# Altium footprint library SM_L_2520-SRN2512-1R0M.PcbLib: 1 footprints
Each footprint in its own frame and in the unit in brackets; x right, y up, seen from the top. Pads: shape width x height; smd on the part's side, far side on the other; paste and mask are expansions set on the pad; w line width, h text height; cw(c..) or ccw(c..) is an arc to the next point about the centre after c.
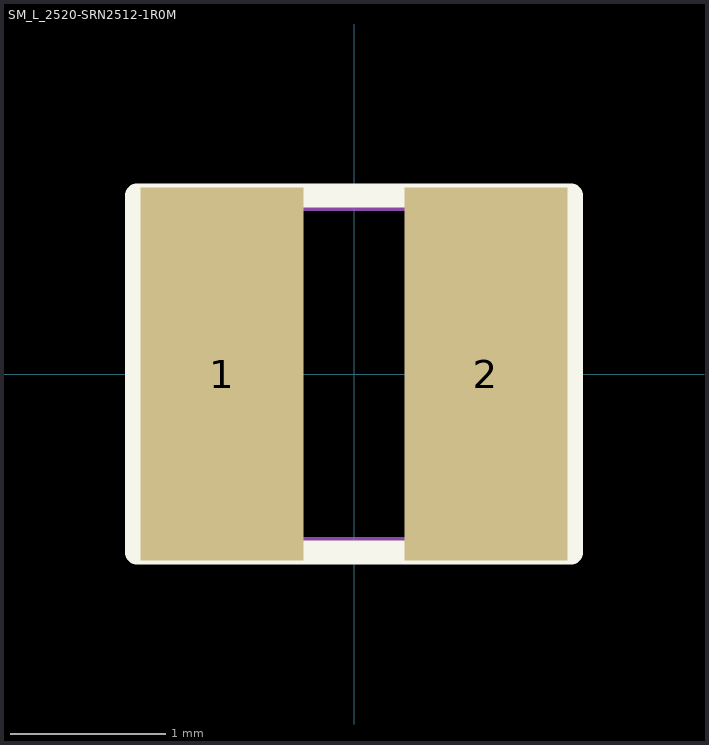
[diagram p0: the footprint, top view; thin cyan lines are the x and y axes]

## SM_L_2520-SRN2512-1R0M [mm] "1008 (2520 Metric)"
height 1.2
pads (2):
  rect 1.05x2.4 smd: 1(-0.85,0) 2(0.85,0)
Top Overlay:
  lines w0.152: -1.4,-1.15 -1.4,1.15 1.4,1.15 1.4,-1.15 -1.4,-1.15
Mechanical 15:
  lines w0.1: -1.35,-1.1 -1.35,1.1 1.35,1.1 1.35,-1.1 -1.35,-1.1
3D body: height 1.2, standoff 0, extent -1.25,-1 1.25,1